# Altium schematic symbol library SamacSys.SchLib: 10 symbols
Pins are listed as number, name and electrical type; pins without a type are passive.

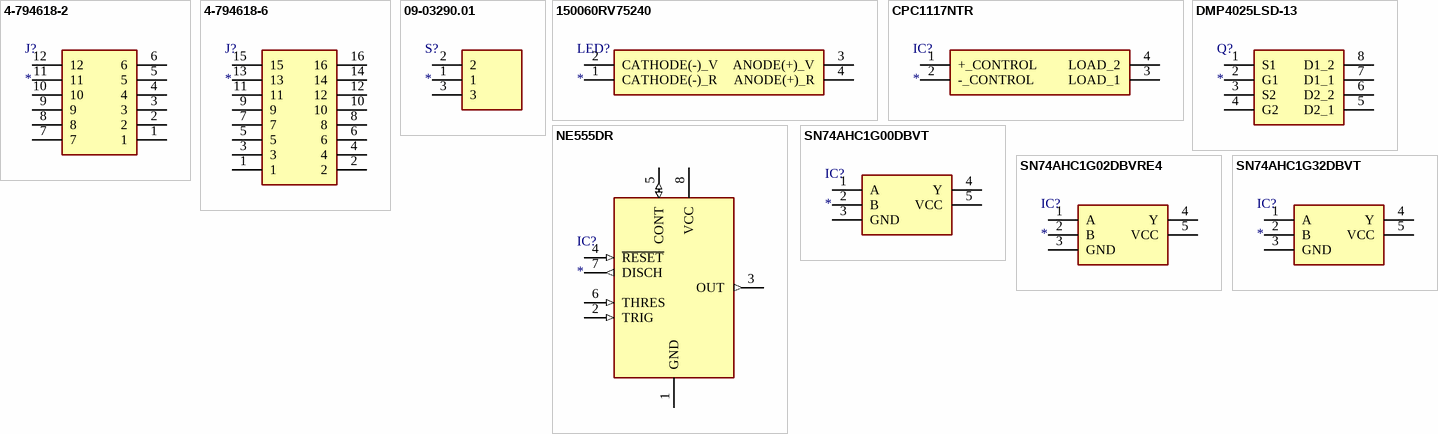
[diagram p0: symbols 4-794618-2 to SN74AHC1G32DBVT]

## 4-794618-2
designator J?
Connector; Manufacturer_Name: TE Connectivity; Manufacturer_Part_Number: 4-794618-2; Datasheet Link: https://componentsearchengine.com/Datasheets/2/4-794618-2.pdf; Height: 8.67mm; Mouser Part Number: 571-4-794618-2; Mouser Price/Stock: https://www.mouser.co.uk/ProductDetail/TE-Connectivity-AMP/4-794618-2?qs=So72BguRTJaXDhFpFUBejg%3D%3D; Arrow Part Number: 4-794618-2; Arrow Price/Stock: https://www.arrow.com/en/products/4-794618-2/te-connectivity
footprint 47946182
pins: 1, 2, 3, 4, 5, 6, 7, 8, 9, 10, 11, 12

## 4-794618-6
designator J?
Connector; Manufacturer_Name: TE Connectivity; Manufacturer_Part_Number: 4-794618-6; Datasheet Link: https://www.te.com/commerce/DocumentDelivery/DDEController?Action=showdoc&DocId=Customer+Drawing%7F794618%7FF4%7Fpdf%7FEnglish%7FENG_CD_794618_F4.pdf%7F4-794618-6; Height: 8.8mm; Mouser Part Number: 571-4-794618-6; Mouser Price/Stock: https://www.mouser.co.uk/ProductDetail/TE-Connectivity-AMP/4-794618-6?qs=aUp63snYJwBR7PjA8Kx36Q%3D%3D
footprint 47946186
pins: 1, 2, 3, 4, 5, 6, 7, 8, 9, 10, 11, 12, 13, 14, 15, 16

## 09-03290.01
designator S?
Switch; Manufacturer_Name: EOZ; Manufacturer_Part_Number: 09-03290.01
footprint 09.03290.01
pins: 1, 2, 3

## 150060RV75240
designator LED?
LED; Manufacturer_Name: Wurth Elektronik; Manufacturer_Part_Number: 150060RV75240; Datasheet Link: https://componentsearchengine.com/Datasheets/1/150060RV75240.pdf; Height: 0.6mm; Mouser Part Number: 710-150060RV75240; Mouser Price/Stock: https://www.mouser.co.uk/ProductDetail/Wurth-Elektronik/150060RV75240?qs=u16ybLDytRac7Gw0EnqiKA%3D%3D
footprint 150060RV75240
pins: 1 CATHODE(-)_R, 2 CATHODE(-)_V, 3 ANODE(+)_V, 4 ANODE(+)_R

## CPC1117NTR
designator IC?
Integrated Circuit; Manufacturer_Name: LITTELFUSE; Manufacturer_Part_Number: CPC1117NTR; Datasheet Link: https://componentsearchengine.com//CPC1117NTR.pdf; Height: 2.159mm; Mouser2 Part Number: 849-CPC1117NTR; Mouser2 Price/Stock: https://www.mouser.com/Search/Refine.aspx?Keyword=849-CPC1117NTR
footprint SOP254P610X216-4N
pins: 1 +_CONTROL, 2 -_CONTROL, 3 LOAD_1, 4 LOAD_2

## DMP4025LSD-13
designator Q?
MOSFET (P-Channel); Manufacturer_Name: Diodes Inc.; Manufacturer_Part_Number: DMP4025LSD-13; Datasheet Link: https://ms.componentsearchengine.com/Datasheets/2/DMP4025LSD-13.pdf; Height: 1.75mm; Mouser Part Number: 621-DMP4025LSD-13; Mouser Price/Stock: https://www.mouser.co.uk/ProductDetail/Diodes-Incorporated/DMP4025LSD-13?qs=gfe7vQ8txpWs%252BZpALpt3%252Bg%3D%3D; Arrow Part Number: DMP4025LSD-13; Arrow Price/Stock: https://www.arrow.com/en/products/dmp4025lsd-13/diodes-incorporated
footprint SOIC127P600X175-8N
pins: 1 S1, 2 G1, 3 S2, 4 G2, 5 D2_1, 6 D2_2, 7 D1_1, 8 D1_2

## NE555DR
designator IC?
Integrated Circuit; Manufacturer_Name: Texas Instruments; Manufacturer_Part_Number: NE555DR; Datasheet Link: http://www.ti.com/lit/ds/symlink/ne555.pdf; Height: 1.75mm; Mouser Part Number: 595-NE555DR; Mouser Price/Stock: https://www.mouser.com/Search/Refine.aspx?Keyword=595-NE555DR; RS Part Number: 1218414; RS Price/Stock: http://uk.rs-online.com/web/p/products/1218414
footprint SOIC127P600X175-8N
pins: 1 GND (power), 2 TRIG (in), 3 OUT (out), 4 ~{RESET} (in), 5 CONT (io), 6 THRES (in), 7 DISCH (out), 8 VCC (power)

## SN74AHC1G00DBVT
designator IC?
Integrated Circuit; Manufacturer_Name: Texas Instruments; Manufacturer_Part_Number: SN74AHC1G00DBVT; Datasheet Link: http://www.ti.com/lit/gpn/SN74AHC1G00; Height: 1.45mm; Mouser Part Number: 595-SN74AHC1G00DBVT; Mouser Price/Stock: https://www.mouser.co.uk/ProductDetail/Texas-Instruments/SN74AHC1G00DBVT?qs=fSCvMSq5ISUzAwGoJLhgqw%3D%3D; Arrow Part Number: SN74AHC1G00DBVT; Arrow Price/Stock: https://www.arrow.com/en/products/sn74ahc1g00dbvt/texas-instruments
footprint SOT95P280X145-5N
pins: 1 A, 2 B, 3 GND, 4 Y, 5 VCC

## SN74AHC1G02DBVRE4
designator IC?
Integrated Circuit; Manufacturer_Name: Texas Instruments; Manufacturer_Part_Number: SN74AHC1G02DBVRE4; Datasheet Link: https://www.ti.com/lit/ds/symlink/sn74ahc1g02.pdf?ts=1621939975769&ref_url=https%253A%252F%252Fcomponentsearchengine.com%252F; Height: 1.45mm; Mouser Part Number: 595-SN74AHC1G02DBE4; Mouser Price/Stock: https://www.mouser.co.uk/ProductDetail/Texas-Instruments/SN74AHC1G02DBVRE4?qs=fSCvMSq5ISWe29d0OfsHRg%3D%3D; Arrow Part Number: SN74AHC1G02DBVRE4; Arrow Price/Stock: https://www.arrow.com/en/products/sn74ahc1g02dbvre4/texas-instruments
footprint SOT95P280X145-5N
pins: 1 A, 2 B, 3 GND, 4 Y, 5 VCC

## SN74AHC1G32DBVT
designator IC?
Integrated Circuit; Manufacturer_Name: Texas Instruments; Manufacturer_Part_Number: SN74AHC1G32DBVT; Datasheet Link: http://www.ti.com/general/docs/lit/getliterature.tsp?genericPartNumber=sn74ahc1g32&fileType=pdf; Height: 1.45mm; Mouser Part Number: 595-SN74AHC1G32DBVT; Mouser Price/Stock: https://www.mouser.co.uk/ProductDetail/Texas-Instruments/SN74AHC1G32DBVT?qs=fSCvMSq5ISVX4j%2FpWgAWfA%3D%3D; Arrow Part Number: SN74AHC1G32DBVT; Arrow Price/Stock: https://www.arrow.com/en/products/sn74ahc1g32dbvt/texas-instruments?region=nac
footprint SOT95P280X145-5N
pins: 1 A, 2 B, 3 GND, 4 Y, 5 VCC